# EAGLE library part DRV8825 (library DRV8825)
DRV8825 Stepper motor driver
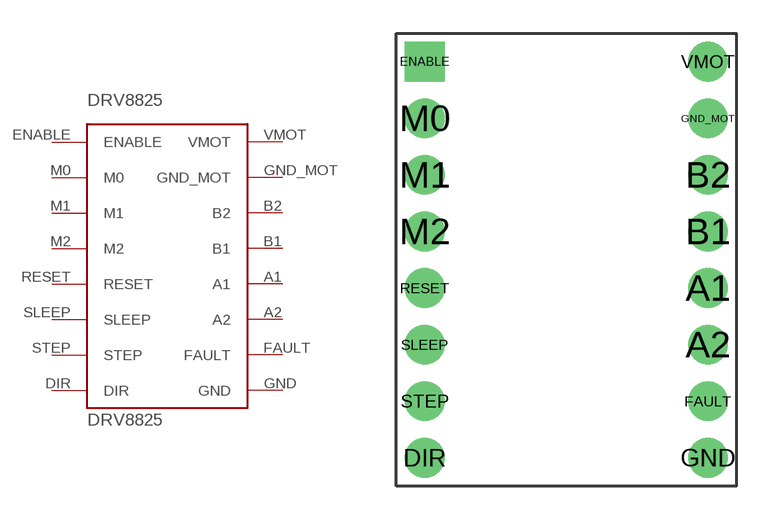
[diagram p0: symbol with the pads of DRV8825; footprint DRV8825]

Designator prefix DRV8825

## DRV8825  [DRV8825]
A1  A1
A2  A2
B1  B1
B2  B2
DIR  DIR
ENABLE  ENABLE
FAULT  FAULT
GND  GND
GND_MOT  GND_MOT
M0  M0
M1  M1
M2  M2
RESET  RESET
SLEEP  SLEEP
STEP  STEP
VMOT  VMOT

## Footprint DRV8825 (pad centres in mm)
drill 0.8 pad 1.778: A1 13.97,-11.43; A2 13.97,-13.97; B1 13.97,-8.89; B2 13.97,-6.35; DIR 1.27,-19.05; FAULT 13.97,-16.51; GND 13.97,-19.05; GND_MOT 13.97,-3.81; M0 1.27,-3.81; M1 1.27,-6.35; M2 1.27,-8.89; RESET 1.27,-11.43; SLEEP 1.27,-13.97; STEP 1.27,-16.51; VMOT 13.97,-1.27
drill 0.8 pad 1.778 square: ENABLE 1.27,-1.27